# Altium footprint library Photoelectrics.PcbLib: 4 footprints
Each footprint in its own frame and in the unit in brackets; x right, y up, seen from the top. Pads: shape width x height; smd on the part's side, far side on the other; paste and mask are expansions set on the pad; w line width, h text height; cw(c..) or ccw(c..) is an arc to the next point about the centre after c.
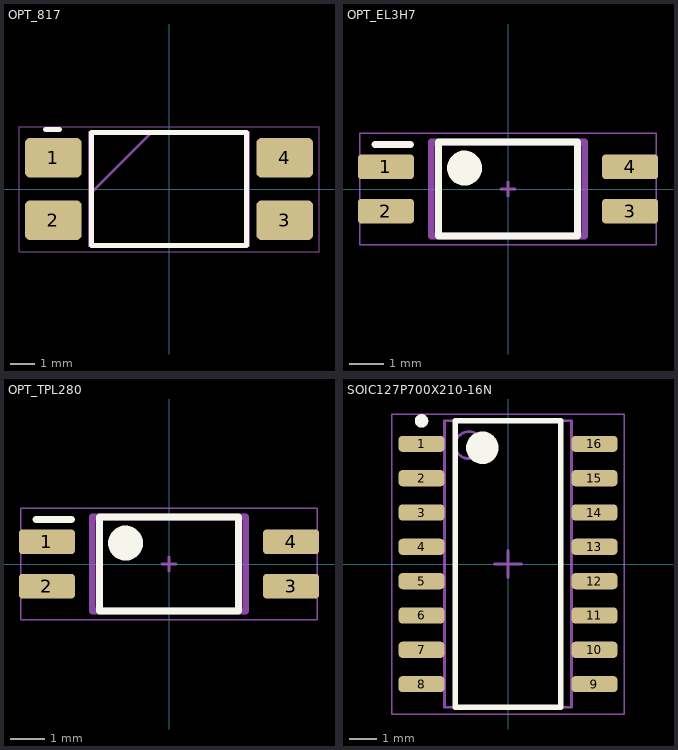
[diagram p0: the footprints below, top view; thin cyan lines are the x and y axes]

## OPT_817 [mm]
pads (4):
  rrect25% 2.3x1.6 smd: 1(-4.7,1.27) 2(-4.7,-1.27) 3(4.7,-1.27) 4(4.7,1.27)
Top Overlay:
  lines w0.2: -5.021,2.413 -4.445,2.413 ; -3.15,-2.3 -3.15,2.3 3.15,2.3 3.15,-2.3 -3.15,-2.3
Top Designator:
  text ".Designator" at -7.618,-0.508 h1.52
Top 3D Body:
  lines w0.1: -3.25,-0.24 -0.71,2.3 ; -3.25,-2.3 -3.25,2.3 3.25,2.3 3.25,-2.3 -3.25,-2.3
Top Courtyard:
  lines w0.05: -6.096,-2.54 -6.096,2.54 6.096,2.54 6.096,-2.54 -6.096,-2.54
3D body "FOD817AS.stp": height 3.85, standoff 0, extent -5.08,-2.3 5.08,2.3

## OPT_EL3H7 [mm]
pads (4):
  rrect25% 1.6x0.7 smd paste+0 mask+0: 1(-3.5,0.635) 2(-3.5,-0.635) 3(3.5,-0.635) 4(3.5,0.635)
Top Overlay:
  circle w0.5: c-1.248,0.6 r0.25
  lines w0.2: -3.81,1.27 -2.794,1.27 ; -1.998,-1.35 -1.998,1.35 1.998,1.35 1.998,-1.35 -1.998,-1.35
Top Component Center:
  lines w0.1: -0.2,0 0,0 ; 0,-0.2 0,0 ; 0,0.2 0,0 ; 0.2,0 0,0
Top Designator:
  text ".Designator" at -7.618,-0.508 h1.52
Top 3D Body:
  lines w0.2: -2.2,-1.35 -2.2,1.35 2.2,1.35 2.2,-1.35 -2.2,-1.35
Top Courtyard:
  lines w0.05: -4.252,-1.6 -4.252,1.6 4.252,1.6 4.252,-1.6 -4.252,-1.6
3D body "IC_Renesas_PS2801-1-F3-A_eec.STEP": height 0.25, standoff 0, extent -4.252,-1.6 4.252,1.6

## OPT_TPL280 [mm]
pads (4):
  rrect25% 1.6x0.7 smd paste+0 mask+0: 1(-3.5,0.635) 2(-3.5,-0.635) 3(3.5,-0.635) 4(3.5,0.635)
Top Overlay:
  circle w0.5: c-1.248,0.6 r0.25
  lines w0.2: -3.81,1.27 -2.794,1.27 ; -1.998,-1.35 1.998,-1.35 1.998,1.35 -1.998,1.35 -1.998,-1.35
Top Component Center:
  lines w0.1: -0.2,0 0,0 ; 0,-0.2 0,0 ; 0,0.2 0,0 ; 0.2,0 0,0
Top Designator:
  text ".Designator" at -7.618,-0.508 h1.52
Top 3D Body:
  lines w0.2: -2.2,-1.35 2.2,-1.35 2.2,1.35 -2.2,1.35 -2.2,-1.35
Top Courtyard:
  lines w0.05: -4.252,-1.6 4.252,-1.6 4.252,1.6 -4.252,1.6 -4.252,-1.6
3D body "IC_Renesas_PS2801-1-F3-A_eec.STEP": height 0.25, standoff 0, extent -4.252,-1.6 4.252,1.6

## SOIC127P700X210-16N [mm] "SOIC, 16-Leads, Body 10.32x4.40mm, Pitch 1.27mm, IPC Medium Density"
height 2.1
pads (16):
  rrect50% 1.7x0.6 smd: 1(-3.2,4.445) 2(-3.2,3.175) 3(-3.2,1.905) 4(-3.2,0.635) 5(-3.2,-0.635) 6(-3.2,-1.905) 7(-3.2,-3.175) 8(-3.2,-4.445) 9(3.2,-4.445) 10(3.2,-3.175) 11(3.2,-1.905) 12(3.2,-0.635) 13(3.2,0.635) 14(3.2,1.905) 15(3.2,3.175) 16(3.2,4.445)
Top Overlay:
  circle w0.25: c-3.2,5.295 r0.125
  circle w0.6: c-0.95,4.3 r0.3
  lines w0.2: -1.95,-5.3 -1.95,5.3 1.95,5.3 1.95,-5.3 -1.95,-5.3
Top Assembly:
  text ".Designator" at -7.618,-0.508 h1.52
Top Designator:
  circle w0.1: c-1.45,4.4 r0.5
  lines w0.1: -2.35,-5.3 -2.35,5.3 2.35,5.3 2.35,-5.3 -2.35,-5.3
  text ".Designator" at -7.618,-0.508 h1.52
Top Courtyard:
  lines w0.05: -4.3,-5.55 -4.3,5.55 4.3,5.55 4.3,-5.55 -4.3,-5.55
  lines w0.1: -0.5,0 0.5,0 ; 0,-0.5 0,0.5
3D body "SOIC127P700X210-16N.step": height 2.1, standoff 0, extent -3.5,-5.3 3.5,5.3